# Altium schematic symbol library Schlib1.SchLib: 2 symbols
Pins are listed as number, name and electrical type; pins without a type are passive.

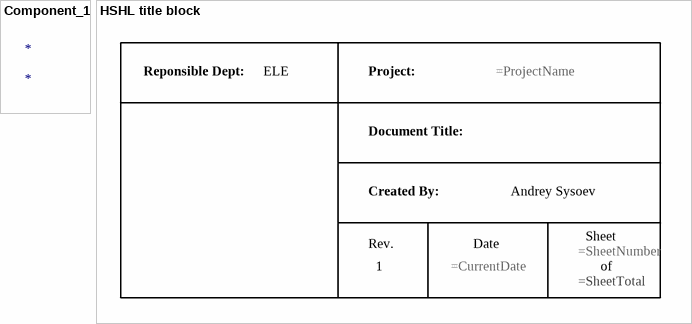
[diagram p0: symbols Component_1 to HSHL title block]

## Component_1
designator *

## HSHL title block
designator *  (value not drawn)  (graphical)
text: Reponsible Dept:; ELE; Project:; Document Title:; Created By:; Andrey Sysoev; Sheet; Rev.; Date; 1; of